# EAGLE library part CONN_SAS_SLIM_X4 (library GPLIB_CONN)
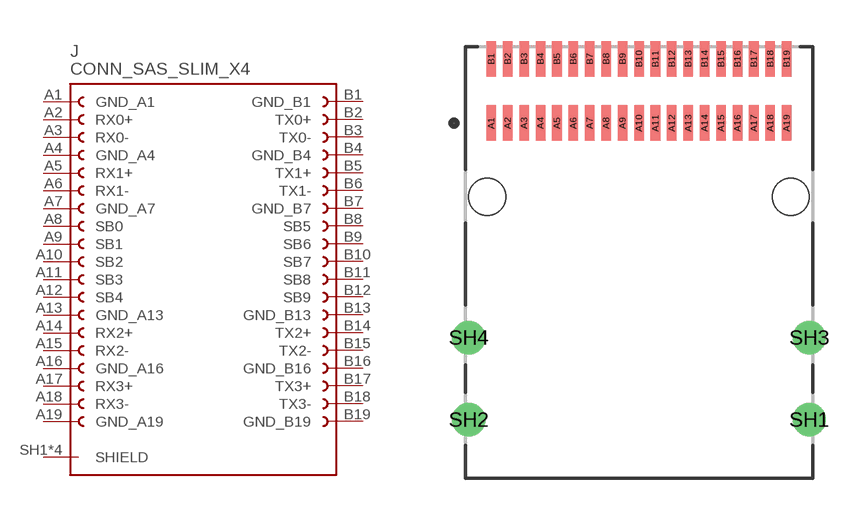
[diagram p25: symbol with the pads of CONN_SLIMSAS_AMPHENOL_U10C438270T; footprint CONN_SLIMSAS_AMPHENOL_U10C438270T]

Designator prefix J

## CONN_SAS_SLIM_X4_U10C438270T  [CONN_SLIMSAS_AMPHENOL_U10C438270T]
A1  GND_A1  pwr
A2  RX0+  pas
A3  RX0-  pas
A4  GND_A4  pwr
A5  RX1+  pas
A6  RX1-  pas
A7  GND_A7  pwr
A8  SB0  pas
A9  SB1  pas
A10  SB2  pas
A11  SB3  pas
A12  SB4  pas
A13  GND_A13  pwr
A14  RX2+  pas
A15  RX2-  pas
A16  GND_A16  pwr
A17  RX3+  pas
A18  RX3-  pas
A19  GND_A19  pwr
B1  GND_B1  pwr
B2  TX0+  pas
B3  TX0-  pas
B4  GND_B4  pwr
B5  TX1+  pas
B6  TX1-  pas
B7  GND_B7  pwr
B8  SB5  pas
B9  SB6  pas
B10  SB7  pas
B11  SB8  pas
B12  SB9  pas
B13  GND_B13  pwr
B14  TX2+  pas
B15  TX2-  pas
B16  GND_B16  pwr
B17  TX3+  pas
B18  TX3-  pas
B19  GND_B19  pwr
SH1  SHIELD  pas
SH2  SHIELD  pas
SH3  SHIELD  pas
SH4  SHIELD  pas

## Footprint CONN_SLIMSAS_AMPHENOL_U10C438270T (pad centres in mm)
smd 0.35 x 1.3: A1 -5.4,5.1; A2 -4.8,5.1; A3 -4.2,5.1; A4 -3.6,5.1; A5 -3,5.1; A6 -2.4,5.1; A7 -1.8,5.1; A8 -1.2,5.1; A9 -0.6,5.1; A10 0,5.1; A11 0.6,5.1; A12 1.2,5.1; A13 1.8,5.1; A14 2.4,5.1; A15 3,5.1; A16 3.6,5.1; A17 4.2,5.1; A18 4.8,5.1; A19 5.4,5.1; B1 -5.4,7.45; B2 -4.8,7.45; B3 -4.2,7.45; B4 -3.6,7.45; B5 -3,7.45; B6 -2.4,7.45; B7 -1.8,7.45; B8 -1.2,7.45; B9 -0.6,7.45; B10 0,7.45; B11 0.6,7.45; B12 1.2,7.45; B13 1.8,7.45; B14 2.4,7.45; B15 3,7.45; B16 3.6,7.45; B17 4.2,7.45; B18 4.8,7.45; B19 5.4,7.45
drill 0.71: SH1 6.225,-5.75; SH2 -6.225,-5.75; SH3 6.225,-2.75; SH4 -6.225,-2.75
hole 1.35 at 5.55,2.4
hole 1.35 at -5.55,2.4